# EAGLE library part RN06 (library RESISTOR_NET)
RESISTOR NETWORK
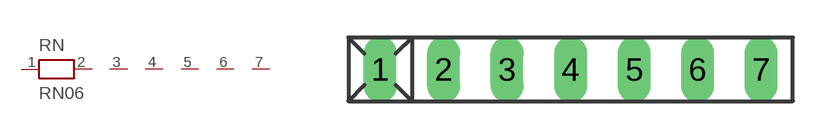
[diagram p1: symbol with the pads of RN-7; footprint RN-7]

Designator prefix RN

## RN06  [RN-7]
1  1  pas
2  2  pas
3  3  pas
4  4  pas
5  5  pas
6  6  pas
7  7  pas

## Footprint RN-7 (pad centres in mm)
RESISTOR NETWORK
drill 0.813 long: 1 -7.62,0; 2 -5.08,0; 3 -2.54,0; 4 0,0; 5 2.54,0; 6 5.08,0; 7 7.62,0